# Altium footprint library TEConnectivity_AMP.PcbLib: 2 footprints
Each footprint in its own frame and in the unit in brackets; x right, y up, seen from the top. Pads: shape width x height; smd on the part's side, far side on the other; paste and mask are expansions set on the pad; w line width, h text height; cw(c..) or ccw(c..) is an arc to the next point about the centre after c.
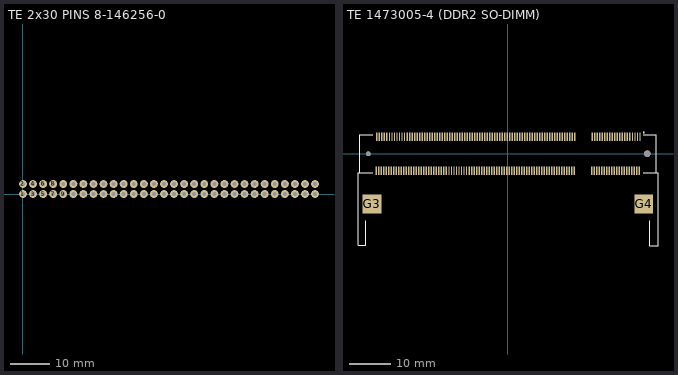
[diagram p0: the footprints below, top view; thin cyan lines are the x and y axes]

## TE 2x30 PINS 8-146256-0 [mm]
pads (60):
  round 2 hole 1: 1(0,0) 2(0,2.54) 3(2.54,0) 4(2.54,2.54) 5(5.08,0) 6(5.08,2.54) 7(7.62,0) 8(7.62,2.54) 9(10.16,0) 10(10.16,2.54) 11(12.7,0) 12(12.7,2.54) 13(15.24,0) 14(15.24,2.54) 15(17.78,0) 16(17.78,2.54) 17(20.32,0) 18(20.32,2.54) 19(22.86,0) 20(22.86,2.54) 21(25.4,0) 22(25.4,2.54) 23(27.94,0) 24(27.94,2.54) 25(30.48,0) 26(30.48,2.54) 27(33.02,0) 28(33.02,2.54) 29(35.56,0) 30(35.56,2.54) 31(38.1,0) 32(38.1,2.54) 33(40.64,0) 34(40.64,2.54) 35(43.18,0) 36(43.18,2.54) 37(45.72,0) 38(45.72,2.54) 39(48.26,0) 40(48.26,2.54) 41(50.8,0) 42(50.8,2.54) 43(53.34,0) 44(53.34,2.54) 45(55.88,0) 46(55.88,2.54) 47(58.42,0) 48(58.42,2.54) 49(60.96,0) 50(60.96,2.54) 51(63.5,0) 52(63.5,2.54) 53(66.04,0) 54(66.04,2.54) 55(68.58,0) 56(68.58,2.54) 57(71.12,0) 58(71.12,2.54) 59(73.66,0) 60(73.66,2.54)
3D body "c-8-146256-0-e-3d.x_t": height 8.13, standoff -3.05, extent -1.079,-1.168 74.714,3.708

## TE 1473005-4 (DDR2 SO-DIMM) [mm]
pads (204):
  rect 0.35x2 smd: 1(31.65,4.1) 2(31.5,-4.1) 3(31.05,4.1) 4(30.9,-4.1) 5(30.45,4.1) 6(30.3,-4.1) 7(29.85,4.1) 8(29.7,-4.1) 9(29.25,4.1) 10(29.1,-4.1) 11(28.65,4.1) 12(28.5,-4.1) 13(28.05,4.1) 14(27.9,-4.1) 15(27.45,4.1) 16(27.3,-4.1) 17(26.85,4.1) 18(26.7,-4.1) 19(26.25,4.1) 20(26.1,-4.1) 21(25.65,4.1) 22(25.5,-4.1) 23(25.05,4.1) 24(24.9,-4.1) 25(24.45,4.1) 26(24.3,-4.1) 27(23.85,4.1) 28(23.7,-4.1) 29(23.25,4.1) 30(23.1,-4.1) 31(22.65,4.1) 32(22.5,-4.1) 33(22.05,4.1) 34(21.9,-4.1) 35(21.45,4.1) 36(21.3,-4.1) 37(20.85,4.1) 38(20.7,-4.1) 39(20.25,4.1) 40(20.1,-4.1) 41(16.05,4.1) 42(15.9,-4.1) 43(15.45,4.1) 44(15.3,-4.1) 45(14.85,4.1) 46(14.7,-4.1) 47(14.25,4.1) 48(14.1,-4.1) 49(13.65,4.1) 50(13.5,-4.1) 51(13.05,4.1) 52(12.9,-4.1) 53(12.45,4.1) 54(12.3,-4.1) 55(11.85,4.1) 56(11.7,-4.1) 57(11.25,4.1) 58(11.1,-4.1) 59(10.65,4.1) 60(10.5,-4.1) 61(10.05,4.1) 62(9.9,-4.1) 63(9.45,4.1) 64(9.3,-4.1) 65(8.85,4.1) 66(8.7,-4.1) 67(8.25,4.1) 68(8.1,-4.1) 69(7.65,4.1) 70(7.5,-4.1) 71(7.05,4.1) 72(6.9,-4.1) 73(6.45,4.1) 74(6.3,-4.1) 75(5.85,4.1) 76(5.7,-4.1) 77(5.25,4.1) 78(5.1,-4.1) 79(4.65,4.1) 80(4.5,-4.1) 81(4.05,4.1) 82(3.9,-4.1) 83(3.45,4.1) 84(3.3,-4.1) 85(2.85,4.1) 86(2.7,-4.1) 87(2.25,4.1) 88(2.1,-4.1) 89(1.65,4.1) 90(1.5,-4.1) 91(1.05,4.1) 92(0.9,-4.1) 93(0.45,4.1) 94(0.3,-4.1) 95(-0.15,4.1) 96(-0.3,-4.1) 97(-0.75,4.1) 98(-0.9,-4.1) 99(-1.35,4.1) 100(-1.5,-4.1) 101(-1.95,4.1) 102(-2.1,-4.1) 103(-2.55,4.1) 104(-2.7,-4.1) 105(-3.15,4.1) 106(-3.3,-4.1) 107(-3.75,4.1) 108(-3.9,-4.1) 109(-4.35,4.1) 110(-4.5,-4.1) 111(-4.95,4.1) 112(-5.1,-4.1) 113(-5.55,4.1) 114(-5.7,-4.1) 115(-6.15,4.1) 116(-6.3,-4.1) 117(-6.75,4.1) 118(-6.9,-4.1) 119(-7.35,4.1) 120(-7.5,-4.1) 121(-7.95,4.1) 122(-8.1,-4.1) 123(-8.55,4.1) 124(-8.7,-4.1) 125(-9.15,4.1) 126(-9.3,-4.1) 127(-9.75,4.1) 128(-9.9,-4.1) 129(-10.35,4.1) 130(-10.5,-4.1) 131(-10.95,4.1) 132(-11.1,-4.1) 133(-11.55,4.1) 134(-11.7,-4.1) 135(-12.15,4.1) 136(-12.3,-4.1) 137(-12.75,4.1) 138(-12.9,-4.1) 139(-13.35,4.1) 140(-13.5,-4.1) 141(-13.95,4.1) 142(-14.1,-4.1) 143(-14.55,4.1) 144(-14.7,-4.1) 145(-15.15,4.1) 146(-15.3,-4.1) 147(-15.75,4.1) 148(-15.9,-4.1) 149(-16.35,4.1) 150(-16.5,-4.1) 151(-16.95,4.1) 152(-17.1,-4.1) 153(-17.55,4.1) 154(-17.7,-4.1) 155(-18.15,4.1) 156(-18.3,-4.1) 157(-18.75,4.1) 158(-18.9,-4.1) 159(-19.35,4.1) 160(-19.5,-4.1) 161(-19.95,4.1) 162(-20.1,-4.1) 163(-20.55,4.1) 164(-20.7,-4.1) 165(-21.15,4.1) 166(-21.3,-4.1) 167(-21.75,4.1) 168(-21.9,-4.1) 169(-22.35,4.1) 170(-22.5,-4.1) 171(-22.95,4.1) 172(-23.1,-4.1) 173(-23.55,4.1) 174(-23.7,-4.1) 175(-24.15,4.1) 176(-24.3,-4.1) 177(-24.75,4.1) 178(-24.9,-4.1) 179(-25.35,4.1) 180(-25.5,-4.1) 181(-25.95,4.1) 182(-26.1,-4.1) 183(-26.55,4.1) 184(-26.7,-4.1) 185(-27.15,4.1) 186(-27.3,-4.1) 187(-27.75,4.1) 188(-27.9,-4.1) 189(-28.35,4.1) 190(-28.5,-4.1) 191(-28.95,4.1) 192(-29.1,-4.1) 193(-29.55,4.1) 194(-29.7,-4.1) 195(-30.15,4.1) 196(-30.3,-4.1) 197(-30.75,4.1) 198(-30.9,-4.1) 199(-31.35,4.1) 200(-31.5,-4.1)
  round 1.1 hole 1.1 unplated: G1(-33.4,0)
  round 1.6 hole 1.6 unplated: G2(33.4,0)
  rect 4.5x4.6 smd: G3(-32.55,-12) G4(32.55,-12)
L26-Silk Screen Top (Multiple PADS layers...):
  circle w0.2: c32.512,5.08 r0.1
  lines w0.127: -35.512,-4.505 -35.891,-4.505 -35.891,-21.923 -34.031,-21.923 -34.031,-15.999 ; -32.385,-4.505 -35.5,-4.505 -35.5,4.5 -32.385,4.5 ; 32.385,-4.505 35.5,-4.505 35.5,4.499 32.385,4.499 ; 34.044,-16.022 34.044,-22.058 35.962,-22.058 35.962,-4.505 35.533,-4.505
3D body "c-1473005-4-j1-3d.stp": height 5.27, standoff -0.63, extent -35.75,-21.033 35.75,5.017